# EAGLE library part XR16L2450IM-F (library Exar_By_element14_Batch_1)
DUART
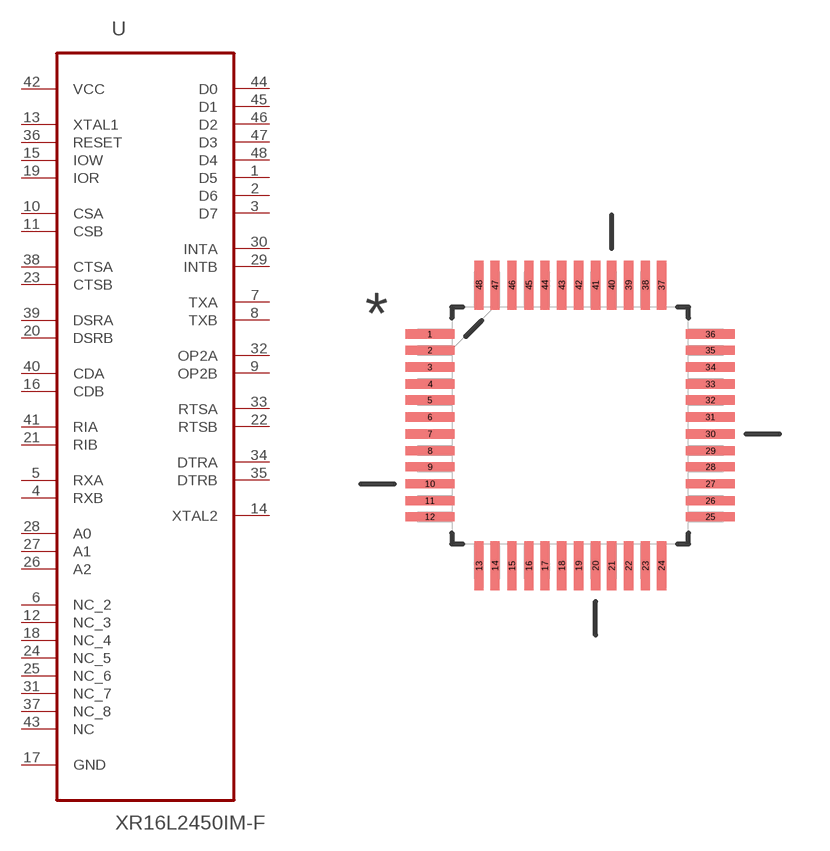
[diagram p63: symbol with the pads of QFP50P900X900X120-48N; footprint QFP50P900X900X120-48N]

Designator prefix U

## XR16L2450IM-F (MPN: XR16L2450IM-F; OC_FARNELL: 1829409; OC_NEWARK: 24R2069; PACKAGE: TQFP-48; SUPPLIER: EXAR)  [QFP50P900X900X120-48N]
1  D5
2  D6
3  D7
4  RXB  in
5  RXA  in
6  NC_2  nc
7  TXA  out
8  TXB  out
9  OP2B  out
10  CSA  in
11  CSB  in
12  NC_3  nc
13  XTAL1  in
14  XTAL2  out
15  IOW  in
16  CDB  in
17  GND  pas
18  NC_4  nc
19  IOR  in
20  DSRB  in
21  RIB  in
22  RTSB  out
23  CTSB  in
24  NC_5  nc
25  NC_6  nc
26  A2  in
27  A1  in
28  A0  in
29  INTB  out
30  INTA  out
31  NC_7  nc
32  OP2A  out
33  RTSA  out
34  DTRA  out
35  DTRB  out
36  RESET  in
37  NC_8  nc
38  CTSA  in
39  DSRA  in
40  CDA  in
41  RIA  in
42  VCC  pwr
43  NC  nc
44  D0
45  D1
46  D2
47  D3
48  D4

## Footprint QFP50P900X900X120-48N (pad centres in mm)
smd 1.473 x 0.279: 1 -4.216,2.743; 2 -4.216,2.261; 3 -4.216,1.753; 4 -4.216,1.245; 5 -4.216,0.762; 6 -4.216,0.254; 7 -4.216,-0.254; 8 -4.216,-0.762; 9 -4.216,-1.245; 10 -4.216,-1.753; 11 -4.216,-2.261; 12 -4.216,-2.743; 25 4.216,-2.743; 26 4.216,-2.261; 27 4.216,-1.753; 28 4.216,-1.245; 29 4.216,-0.762; 30 4.216,-0.254; 31 4.216,0.254; 32 4.216,0.762; 33 4.216,1.245; 34 4.216,1.753; 35 4.216,2.261; 36 4.216,2.743
smd 0.279 x 1.473: 13 -2.743,-4.216; 14 -2.261,-4.216; 15 -1.753,-4.216; 16 -1.245,-4.216; 17 -0.762,-4.216; 18 -0.254,-4.216; 19 0.254,-4.216; 20 0.762,-4.216; 21 1.245,-4.216; 22 1.753,-4.216; 23 2.261,-4.216; 24 2.743,-4.216; 37 2.743,4.216; 38 2.261,4.216; 39 1.753,4.216; 40 1.245,4.216; 41 0.762,4.216; 42 0.254,4.216; 43 -0.254,4.216; 44 -0.762,4.216; 45 -1.245,4.216; 46 -1.753,4.216; 47 -2.261,4.216; 48 -2.743,4.216